# Altium footprint library TXC-7A-24.000MAAJ-T.PcbLib: 1 footprints
Each footprint in its own frame and in the unit in brackets; x right, y up, seen from the top. Pads: shape width x height; smd on the part's side, far side on the other; paste and mask are expansions set on the pad; w line width, h text height; cw(c..) or ccw(c..) is an arc to the next point about the centre after c.
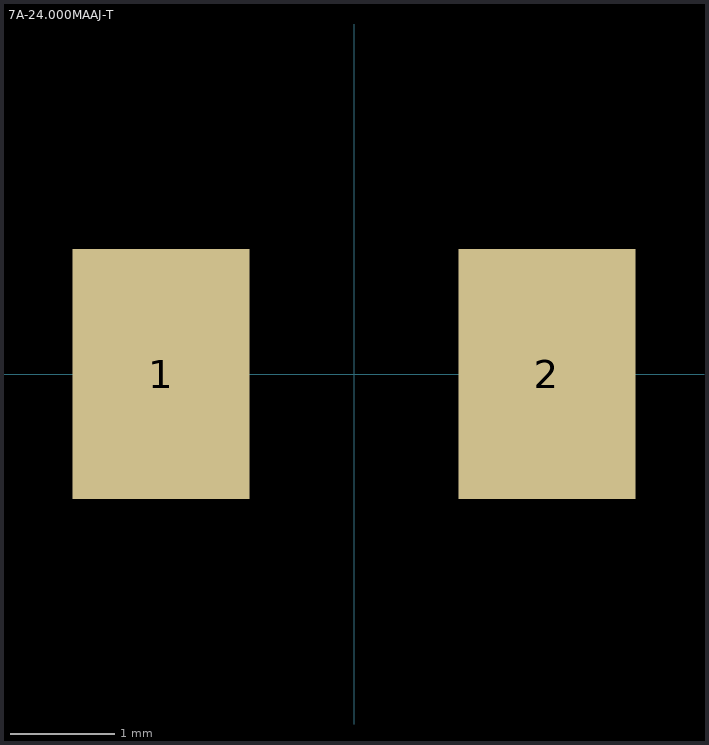
[diagram p0: the footprint, top view; thin cyan lines are the x and y axes]

## 7A-24.000MAAJ-T [mm] "CRYSTAL 24.0000MHZ 18PF SMD"
height 0.03
pads (2):
  rect 1.7x2.4 smd: 1(-1.85,0) 2(1.85,0)
3D body: height 2.21, standoff -0.29, extent -2.4,-1.6 2.5,1.6